# EAGLE library part SHERLOCK-7P (library RS-molex-sherlock)
7-pin Molex SherlockTM connector system Verticle 35362-07** Right Angle 35363-076** Mates with: 35507-0700 header 50212-8100 pins Use 63819-0500 crimper, and 57105-6000 pin extraction tool.
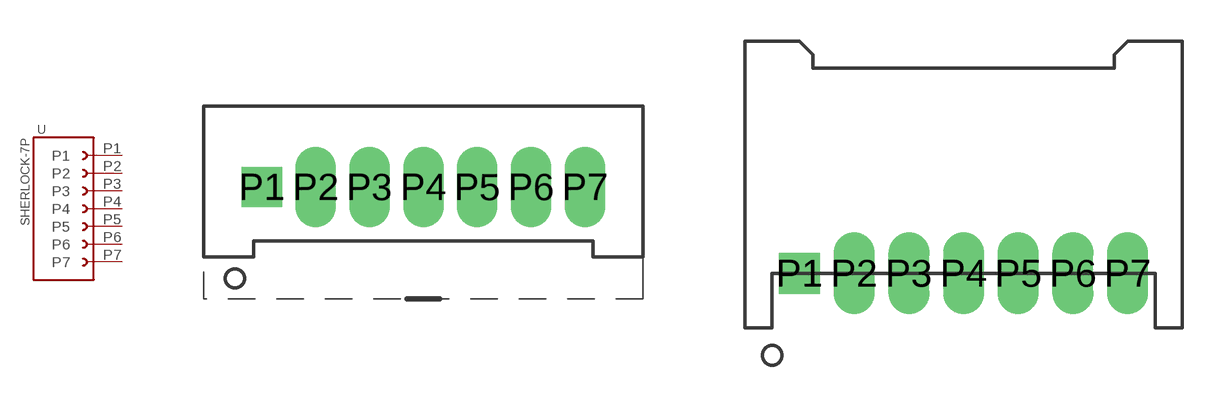
[diagram p1: symbol with the pads of 35362-07**; footprints 35362-07**, 35363-076*]

Designator prefix -

## SHERLOCK-7PVERTICAL  [35362-07**]
P1  P1
P2  P2
P3  P3
P4  P4
P5  P5
P6  P6
P7  P7

## SHERLOCK-7PRIGHT-ANGLE  [35363-076*]
Pads as for 35362-07**

## Footprint 35362-07** (pad centres in mm)
drill 0.8 pad 1.5 square: P1 -6,0
drill 0.8 pad 1.5 long: P2 -4,0; P3 -2,0; P4 0,0; P5 2,0; P6 4,0; P7 6,0

## Footprint 35363-076* (pad centres in mm)
drill 0.8 pad 1.5 square: P1 -6,0
drill 0.8 pad 1.5 long: P2 -4,0; P3 -2,0; P4 0,0; P5 2,0; P6 4,0; P7 6,0